# Altium footprint library component_lib.PcbLib: 13 footprints
Each footprint in its own frame and in the unit in brackets; x right, y up, seen from the top. Pads: shape width x height; smd on the part's side, far side on the other; paste and mask are expansions set on the pad; w line width, h text height; cw(c..) or ccw(c..) is an arc to the next point about the centre after c.
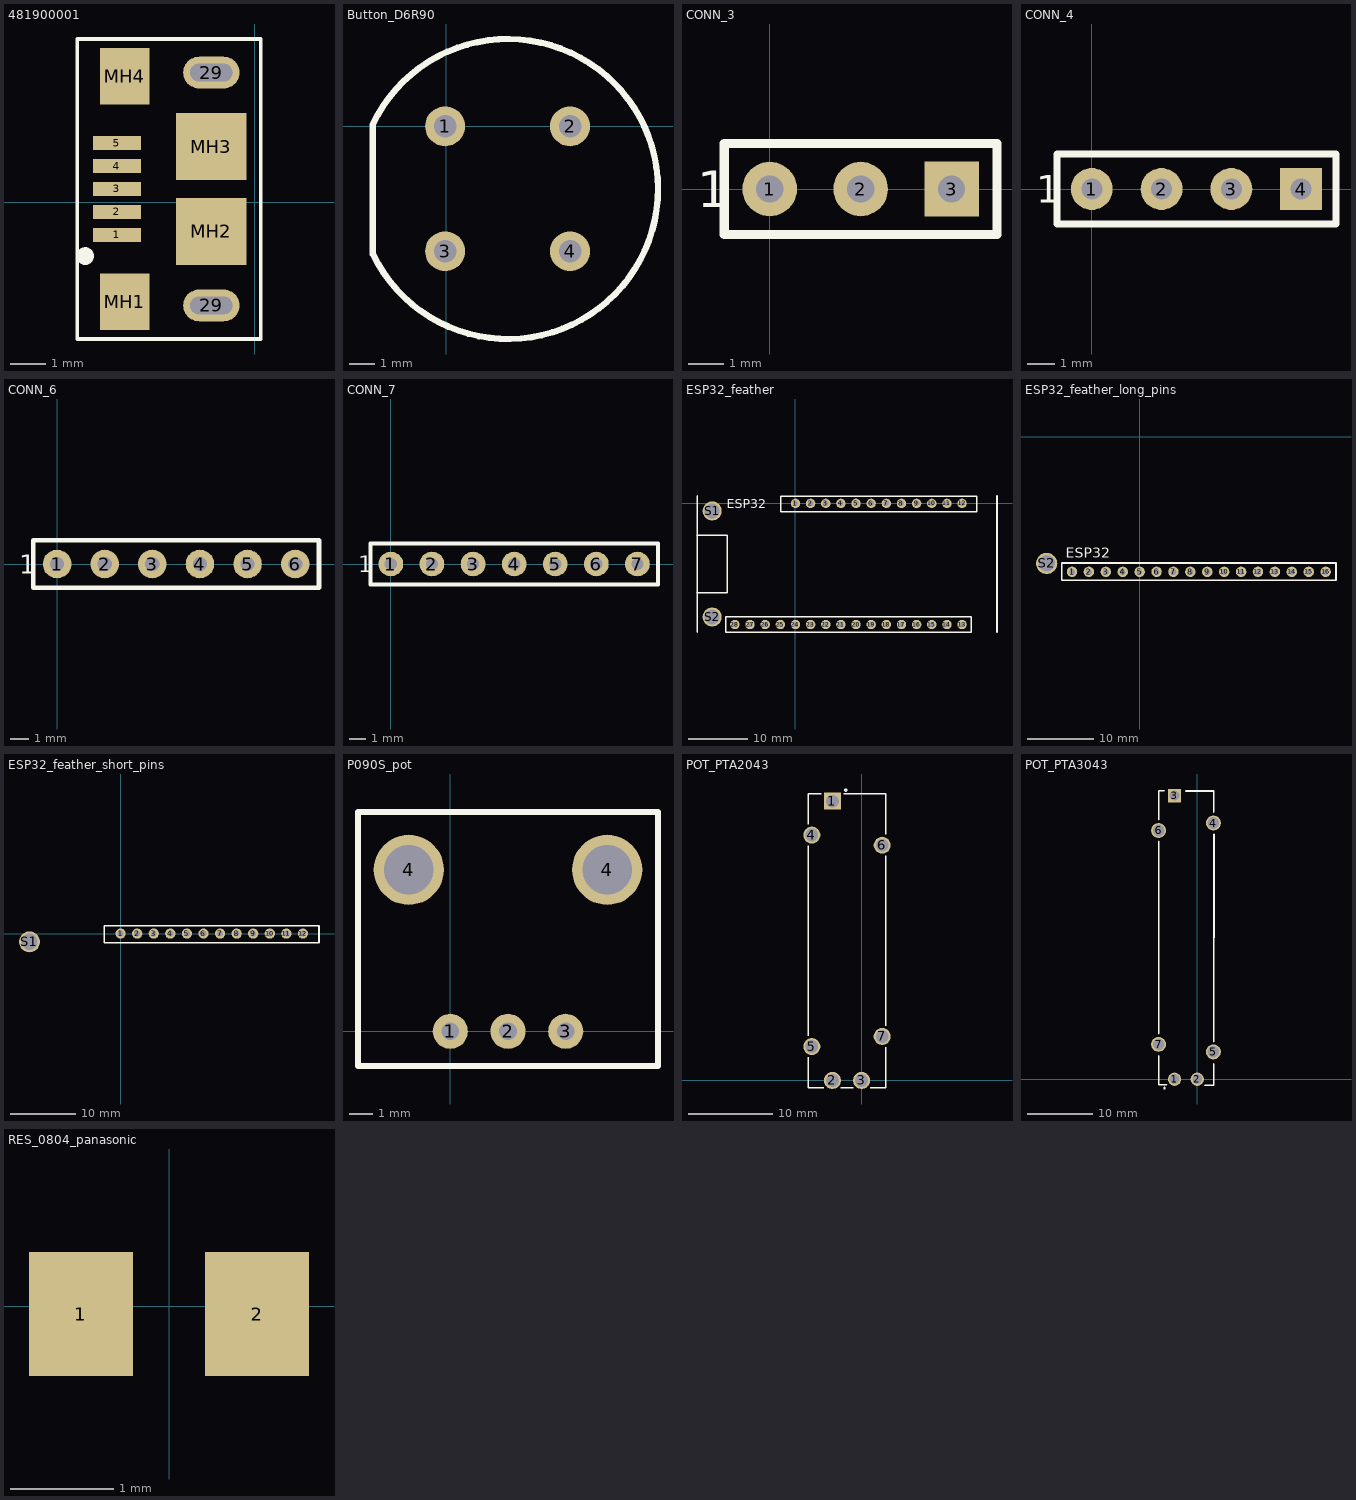
[diagram p0: the footprints below, top view; thin cyan lines are the x and y axes]

## 481900001 [mm] "Connector; USB Mini-B, Sinking Type, SM; 5 Position; Right Angle"
height 0.35
pads (11):
  rect 1.35x0.4 smd: 1(-3.9,-0.925) 2(-3.9,-0.275) 3(-3.9,0.375) 4(-3.9,1.025) 5(-3.9,1.676)
  oval 1.6x0.9 hole 0.5 slot 1.2 at 0 deg: 29(-1.225,-2.925) 29(-1.225,3.675)
  rect 1.4x1.6 smd: MH1(-3.675,-2.825) MH4(-3.675,3.575)
  rect 2x1.9 smd: MH2(-1.225,-0.825) MH3(-1.225,1.575)
Top Overlay:
  circle w0.25: c-4.8,-1.525 r0.125
  lines w0.1: -5.025,-3.875 -5.025,4.625 0.175,4.625 0.175,-3.875 -5.025,-3.875

## Button_D6R90 [mm]
height 12.9
pads (4):
  round 1.6 hole 0.9: 1(-0.05,0) 2(4.95,0) 3(-0.05,-5) 4(4.95,-5)
Top Overlay:
  lines w0.254: -2.95,-5.125 -2.95,-2.5 -2.95,0.075 cw(c2.468,-2.509) -2.93,-5.133

## CONN_3 [mil]
pads (3):
  round 60 hole 30: 1(0,0) 2(100,0)
  rect 60x60 hole 30: 3(200,0)
Top Overlay:
  lines w10: -50,-50 -50,50 250,50 250,0 250,-50 -50,-50
  text "1" at -80,-20 h40

## CONN_4 [mil]
pads (4):
  round 60 hole 30: 1(0,0) 2(100,0) 3(200,0)
  rect 60x60 hole 30: 4(300,0)
Top Overlay:
  lines w10: -50,-50 -50,50 350,50 350,-50 -50,-50
  text "1" at -80,-20 h40

## CONN_6 [mil]
pads (6):
  round 60 hole 30: 1(0,0) 2(100,0) 3(200,0) 4(300,0) 5(400,0) 6(500,0)
Top Overlay:
  lines w10: -50,-50 550,-50 550,50 -50,50 -50,-50
  text "1" at -80,-20 h40

## CONN_7 [mil]
pads (7):
  round 60 hole 30: 1(0,0) 2(100,0) 3(200,0) 4(300,0) 5(400,0) 6(500,0) 7(600,0)
Top Overlay:
  lines w10: -50,-50 650,-50 650,50 -50,50 -50,-50
  text "1" at -80,-20 h40

## ESP32_feather [mil]
pads (30):
  round 62 hole 35.43: 1(0,0) 2(100,0) 3(200,0) 4(300,0) 5(400,0) 6(500,0) 7(600,0) 8(700,0) 9(800,0) 10(900,0) 11(1000,0) 12(1100,0) 13(1100,-800) 14(1000,-800) 15(900,-800) 16(800,-800) 17(700,-800) 18(600,-800) 19(500,-800) 20(400,-800) 21(300,-800) 22(200,-800) 23(100,-800) 24(0,-800) 25(-100,-800) 26(-200,-800) 27(-300,-800) 28(-400,-800)
  round 125.98 hole 98.43: S1(-550,-50) S2(-550,-750)
Top Overlay:
  lines w10: -650,-590 -450,-590 -450,-210 -650,-210 ; -649.61,-850 -649.61,50 ; -459.84,-800 -460.63,-799.21 ; 1330.71,-850 1330.71,50 ; -460.63,-799.21 -460.63,-748.03 1161.42,-748.03 1161.42,-850.39 -460.63,-850.39 -460.63,-799.21 ; -98.43,-55.12 -98.43,47.24 1196.85,47.24 1196.85,-55.12 -98.43,-55.12
  text "ESP32" at -452.76,-30.51 h60

## ESP32_feather_long_pins [mil]
pads (17):
  round 62 hole 35.43: 1(-400,-800) 2(-300,-800) 3(-200,-800) 4(-100,-800) 5(0,-800) 6(100,-800) 7(200,-800) 8(300,-800) 9(400,-800) 10(500,-800) 11(600,-800) 12(700,-800) 13(800,-800) 14(900,-800) 15(1000,-800) 16(1100,-800)
  round 125.98 hole 98.43: S2(-550,-750)
Top Overlay:
  lines w10: -459.84,-800 -460.63,-799.21 ; -460.63,-799.21 -460.63,-748.03 1161.42,-748.03 1161.42,-850.39 -460.63,-850.39 -460.63,-799.21
  text "ESP32" at -437.01,-716.54 h60

## ESP32_feather_short_pins [mil]
pads (13):
  round 62 hole 35.43: 1(0,0) 2(100,0) 3(200,0) 4(300,0) 5(400,0) 6(500,0) 7(600,0) 8(700,0) 9(800,0) 10(900,0) 11(1000,0) 12(1100,0)
  round 125.98 hole 98.43: S1(-550,-50)
Top Overlay:
  lines w10: -98.43,-55.12 -98.43,47.24 1196.85,47.24 1196.85,-55.12 -98.43,-55.12

## P090S_pot [mil]
pads (5):
  round 60 hole 30: 1(0,0) 2(98.43,0) 3(196.85,0)
  round 120 hole 85: 4(-70.87,275.59) 4(267.72,275.59)
Top Overlay:
  lines w10: -157.48,-59.06 -157.48,374.02 354.33,374.02 354.33,-59.06 -157.48,-59.06

## POT_PTA2043 [mil]
pads (7):
  rect 80x80 hole 60 mask+0: 1(-137,1310)
  round 80 hole 60 mask+0: 2(-137,0) 3(0,0) 4(-233.5,1151) 5(-233.5,159) 6(96.5,1103.5) 7(96.5,206.5)
Top Overlay:
  circle w6: c-74.8,1362.2 r5
  lines w6: -250.5,108.69 -250.5,-35 -176.93,-35 ; -250.5,209.31 -250.5,1100.69 ; -250.5,1201.31 -250.5,1345 -190.1,1345 ; -97.07,-35 -39.93,-35 ; -83.9,1345 113.5,1345 113.5,1153.81 ; 39.93,-35 113.5,-35 113.5,156.19 ; 113.5,256.81 113.5,1053.19
Mechanical 13:
  circle w0: c-137,1325 r5
3D body: height 10, standoff 0, extent 0,0 10,10

## POT_PTA3043 [mil]
height 255
pads (7):
  round 80 hole 60 mask+0: 1(-137,0) 2(0,0)
  rect 80x80 hole 60 mask+0: 3(-137,1710.51)
  round 90 hole 70 mask+0: 4(97.46,1545.28) 5(97.16,165) 6(-233.27,1500.2) 7(-233.27,210.5)
Top Overlay:
  circle w6: c-198,-54 r5
  lines w10: -233,142 -233,-34 -183,-34 ; -233,274 -233,1435 ; -233,1565 -233,1740 -199,1740 ; -69,1738 99,1738 99,1610 ; 47,-36 100,-36 100,93 ; 100,225 101,1476

## RES_0804_panasonic [mm]
pads (2):
  rect 1.006x1.2 smd: 1(-0.853,-0.075) 2(0.853,-0.075)